# Altium schematic symbol library INA195.SchLib: 1 symbol
Pins are listed as number, name and electrical type; pins without a type are passive.

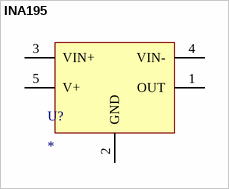
[diagram p0: symbol INA195]

## INA195
designator U?
pins: 1 OUT, 2 GND, 3 VIN+, 4 VIN-, 5 V+